# Altium schematic symbol library Cypress Semiconductor.SchLib: 1 symbol
Pins are listed as number, name and electrical type; pins without a type are passive.

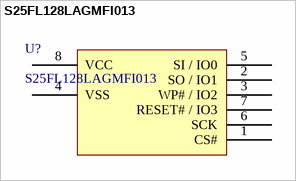
[diagram p0: symbol S25FL128LAGMFI013]

## S25FL128LAGMFI013
designator U?
pins: 1 CS#, 2 SO / IO1, 3 WP# / IO2, 4 VSS, 5 SI / IO0, 6 SCK, 7 RESET# / IO3, 8 VCC